# Altium footprint library PcbLib.PcbLib: 38 footprints (part 1 of 3)
Each footprint in its own frame and in the unit in brackets; x right, y up, seen from the top. Pads: shape width x height; smd on the part's side, far side on the other; paste and mask are expansions set on the pad; w line width, h text height; cw(c..) or ccw(c..) is an arc to the next point about the centre after c.
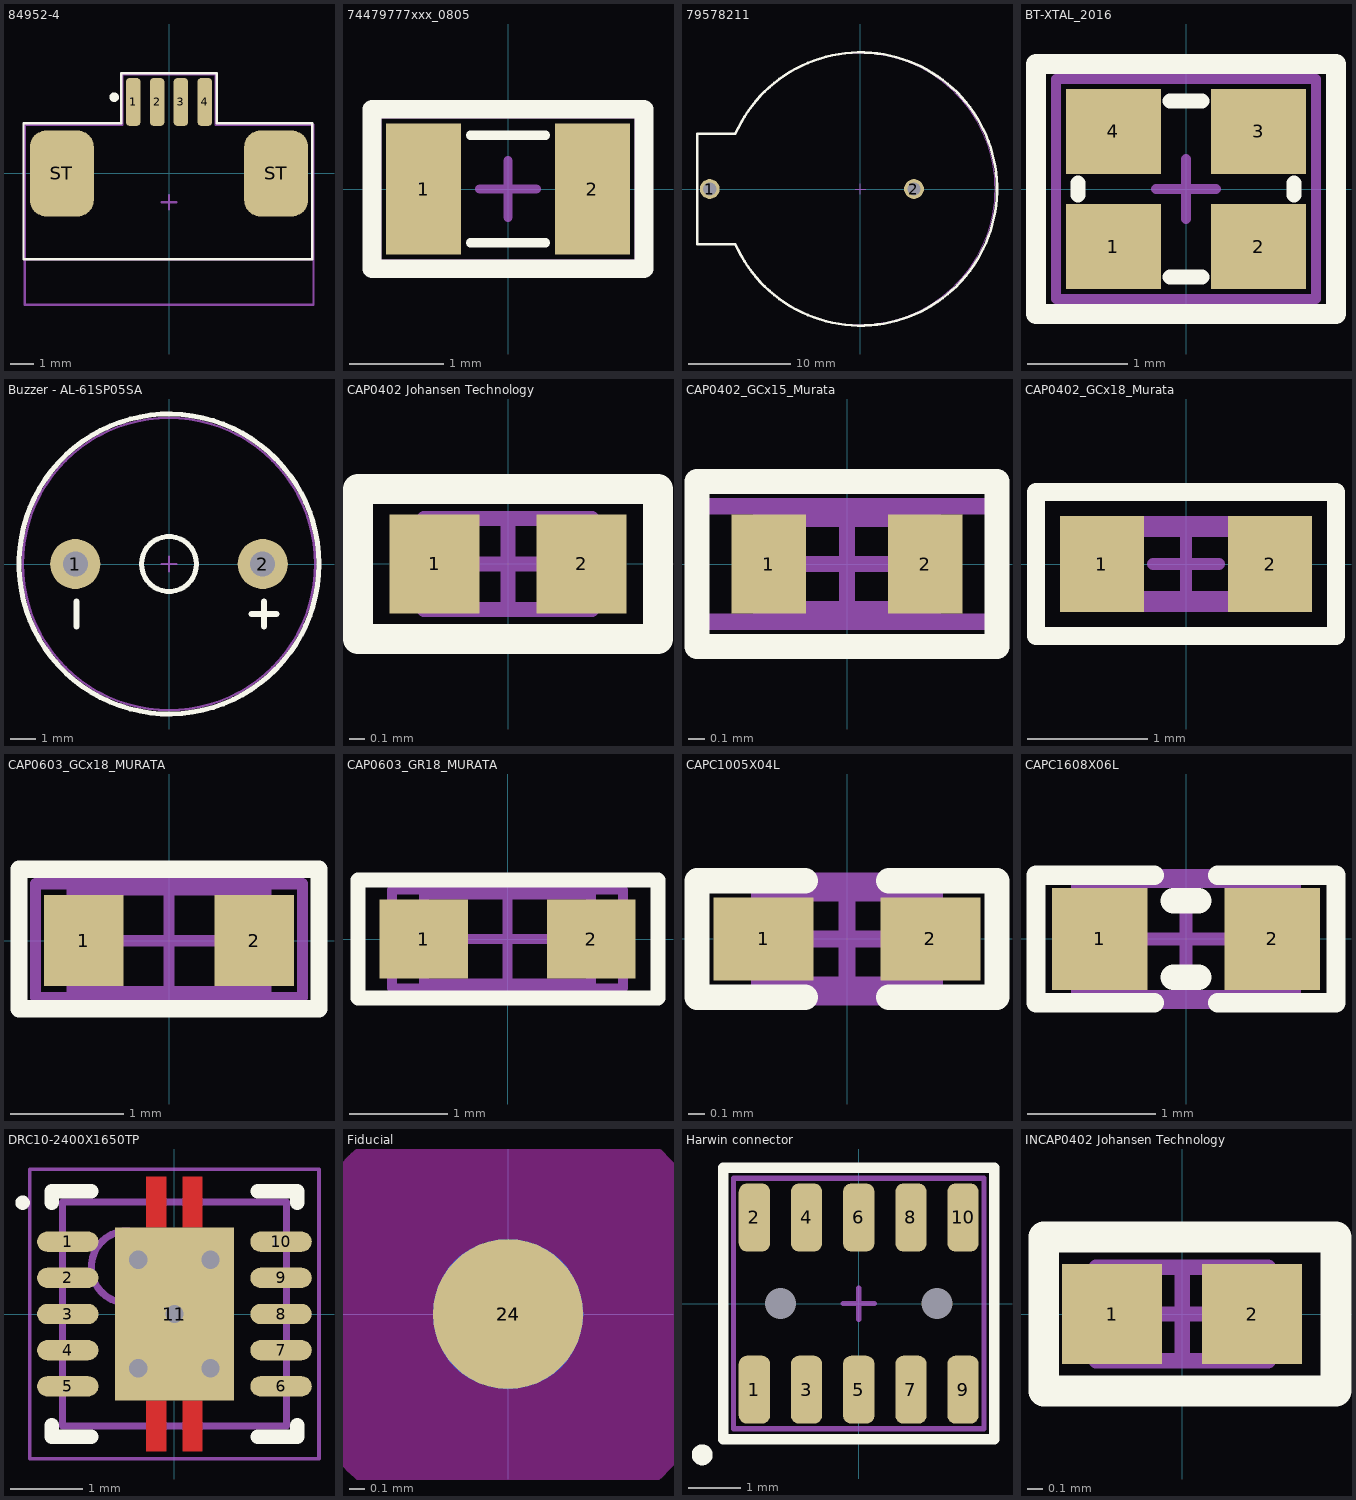
[diagram p0: the footprints below, top view; thin cyan lines are the x and y axes]

## 84952-4 [mm] "84952-4 SMD ZIF connector"
pads (6):
  rrect50% 0.61x2 smd: 1(-1.5,3) 2(-0.5,3) 3(0.5,3) 4(1.5,3)
  rrect50% 2.68x3.6 smd: ST(-4.49,0) ST(4.49,0)
Top Overlay:
  circle w0.2: c-2.3,3.2 r0.1
  lines w0.1: -6.1,-3.6 6,-3.6 6,2.1 2,2.1 2,4.2 -2,4.2 -2,2.1 -6.1,2.1 -6.1,-3.6
Mechanical 15:
  lines w0.1: -6.05,-3.6 6.06,-3.6 ; -0.3,-1.2 0.3,-1.2 ; 0,-1.5 0,-0.9 ; -6.05,-5.5 -6.05,-2.5 -6.05,2.05 -1.95,2.05 -1.95,4.16 1.95,4.16 1.95,2.04 6.06,2.04 6.06,-3.06 6.06,-5.5 -6.05,-5.5
3D body "c-84952-4-a-3d_zif_connector.stp": height 2.54, standoff -0.02, extent -6.04,-3.62 5.88,2.92

## 74479777xxx_0805 [mm] "WE-PMI Power Multilayer Inductor, size 0805"
height 1.25
pads (2):
  rect 0.8x1.4 smd: 1(-0.9,0) 2(0.9,0)
Top Overlay:
  lines w0.1: -0.4,-0.575 0.4,-0.575 ; -0.4,0.575 0.4,0.575
  lines w0.2: -1.45,-0.85 -1.45,0.85 1.45,0.85 1.45,-0.85 -1.45,-0.85
Mechanical 15:
  lines w0.1: -0.3,0 0.3,0 ; 0,-0.3 0,0.3 ; -1.4,-0.8 -1.4,0.8 1.4,0.8 1.4,-0.8 -1.4,-0.8
3D body "74479777xxx_0805.stp": height 1.27, standoff 0.02, extent -1,-0.625 1,0.625

## 79578211 [mm] "Battery Holder"
height 9.5
pads (2):
  round 1.95 hole 1.3: 1(-14.755,0) 2(5.245,0)
Top Overlay:
  lines w0.254: -12.236,-5.4 ccw(c0,0) -12.237,5.399 ; -12.237,5.4 -15.975,5.4 -15.975,-5.4 -12.236,-5.4
Mechanical 15:
  lines w0.1: -0.5,0 0.5,0 ; 0,-0.5 0,0.5 ; -16,-5.4 -16,5.359 -15.98,5.38 -12.254,5.38 cw(c-0.1,0) -12.254,-5.38 -15.98,-5.38 -16,-5.4
3D body "79578211.stp": height 9.6, standoff -3.2, extent -15.97,-13.375 13.327,13.375

## BT-XTAL_2016 [mm]
pads (4):
  rect 0.95x0.85 smd: 1(-0.725,-0.575) 2(0.725,-0.575) 3(0.725,0.575) 4(-0.725,0.575)
Top Overlay:
  lines w0.152: -1.08,-0.06 -1.08,0.06 ; -0.16,-0.88 0.16,-0.88 ; -0.16,0.88 0.16,0.88 ; 1.08,-0.06 1.08,0.06
  lines w0.2: -1.5,-1.25 -1.5,1.25 1.5,1.25 1.5,-1.25 -1.5,-1.25
Mechanical 15:
  lines w0.1: -0.3,0 0.3,0 ; 0,-0.3 0,0.3 ; -1.3,-1.1 1.3,-1.1 1.3,1.1 -1.3,1.1 -1.3,-1.1

## Buzzer - AL-61SP05SA [mm] "KXG1205 buzzer footprint"
pads (2):
  round 2 hole 1: 1(-3.75,0) 2(3.75,0)
Top Overlay:
  circle w0.2: c0,0 r6
  circle w0.2: c0,0 r1.1
  lines w0.254: -3.7,-2.5 -3.7,-1.5 ; 3.3,-2 4.3,-2 ; 3.8,-2.5 3.8,-1.5
Bottom Overlay:
  lines w0.254: -3.7,-2.5 -3.7,-1.5 ; 3.3,-2 4.3,-2 ; 3.8,-2.5 3.8,-1.5
Mechanical 15:
  circle w0.1: c0,0 r5.85
  lines w0.1: -0.3,0 0.3,0 ; 0,-0.3 0,0.3
3D body: height 7.5, standoff 0, extent -5.85,-5.85 5.85,5.85

## CAP0402 Johansen Technology [mm] "Chip Capacitor, 2-Leads, Body 1,02x0,51mm, IPC Medium Density"
height 0.51
pads (2):
  rect 0.6x0.66 smd: 1(-0.49,0) 2(0.49,0)
Top Overlay:
  lines w0.2: -1,-0.5 1,-0.5 1,0.5 -1,0.5 -1,-0.5
Mechanical 13:
  lines w0.1: -0.56,-0.305 0.56,-0.305 0.56,0.305 -0.56,0.305 -0.56,-0.305
Mechanical 15:
  lines w0.05: -0.95,-0.5 0.95,-0.5 0.95,0.5 -0.95,0.5 -0.95,-0.5
  lines w0.1: -0.305,0 0.305,0 ; 0,-0.305 0,0.305
3D body: height 0.51, standoff 0, extent 0.31,-0.305 0.56,0.305
3D body: height 0.51, standoff 0, extent -0.56,-0.305 -0.31,0.305
3D body: height 0.51, standoff 0, extent -0.31,-0.305 0.31,0.305

## CAP0402_GCx15_Murata [mm] "Murata GCx15 0402"
pads (2):
  rect 0.45x0.6 smd: 1(-0.475,0) 2(0.475,0)
Top Overlay:
  lines w0.152: -0.91,-0.5 -0.91,0.5 0.91,0.5 0.91,-0.5 -0.91,-0.5
Mechanical 13:
  lines w0.1: -0.525,-0.275 0.525,-0.275 0.525,0.275 -0.525,0.275 -0.525,-0.275
Mechanical 15:
  lines w0.1: -0.275,0 0.275,0 ; 0,-0.275 0,0.275 ; -0.9,-0.35 -0.9,0.35 0.9,0.35 0.9,-0.35 -0.9,-0.35
3D body "User Library-0402(1005M) Cap.step": height 0.5, standoff -0.01, extent -0.508,-0.254 0.508,0.254

## CAP0402_GCx18_Murata [mm] "Murata GCx18 0402"
pads (2):
  rect 0.7x0.8 smd: 1(-0.7,0) 2(0.7,0)
Top Overlay:
  lines w0.152: -1.25,-0.6 -0.25,-0.6 1.25,-0.6 1.25,0.6 -0.25,0.6 -1.25,0.6 -1.25,-0.6
Mechanical 13:
  lines w0.1: -0.525,-0.275 0.525,-0.275 0.525,0.275 -0.525,0.275 -0.525,-0.275
Mechanical 15:
  lines w0.1: -0.275,0 0.275,0 ; 0,-0.275 0,0.275 ; -0.9,-0.35 -0.9,0.35 0.9,0.35 0.9,-0.35 -0.9,-0.35
3D body "User Library-0402(1005M) Cap.step": height 0.5, standoff -0.01, extent -0.508,-0.254 0.508,0.254

## CAP0603_GCx18_MURATA [mm] "CAP GCx18 Murata 0603"
pads (2):
  rect 0.7x0.8 smd: 1(-0.75,0) 2(0.75,0)
Top Overlay:
  lines w0.152: -1.32,-0.6 1.32,-0.6 1.32,0.63 -1.32,0.63 -1.32,-0.6
Mechanical 13:
  lines w0.1: -0.85,-0.45 -0.85,0.45 0.85,0.45 0.85,-0.45 -0.85,-0.45
Mechanical 15:
  lines w0.1: -0.45,0 0.45,0 ; 0,-0.45 0,0.45 ; -1.175,-0.5 1.175,-0.5 1.175,0.5 -1.175,0.5 -1.175,-0.5
3D body "User Library-Chip Capacitor 0603.step": height 0.8, standoff 0, extent -0.8,-0.43 0.8,0.43

## CAP0603_GR18_MURATA [mm] "CAP GRM18 Murata 0603"
pads (2):
  rect 0.9x0.8 smd: 1(-0.85,0) 2(0.85,0)
Top Overlay:
  lines w0.152: -1.52,-0.6 -1.52,0.6 1.53,0.6 1.53,-0.6 1.4,-0.6 -1.52,-0.6
Mechanical 13:
  lines w0.1: -0.85,-0.45 -0.85,0.45 0.85,0.45 0.85,-0.45 -0.85,-0.45
Mechanical 15:
  lines w0.1: -0.45,0 0.45,0 ; 0,-0.45 0,0.45 ; -1.175,-0.5 1.175,-0.5 1.175,0.5 -1.175,0.5 -1.175,-0.5
3D body "User Library-Chip Capacitor 0603.step": height 0.8, standoff 0, extent -0.8,-0.43 0.8,0.43

## CAPC1005X04L [mm]
pads (2):
  rect 0.6x0.5 smd: 1(-0.5,0) 2(0.5,0)
Top Overlay:
  lines w0.152: -0.25,-0.35 -0.9,-0.35 -0.9,0.35 -0.25,0.35 ; 0.25,-0.35 0.9,-0.35 0.9,0.35 0.25,0.35
Mechanical 13:
  lines w0.1: -0.525,-0.275 0.525,-0.275 0.525,0.275 -0.525,0.275 -0.525,-0.275
Mechanical 15:
  lines w0.1: -0.275,0 0.275,0 ; 0,-0.275 0,0.275 ; -0.9,-0.35 -0.9,0.35 0.9,0.35 0.9,-0.35 -0.9,-0.35
3D body "User Library-0402(1005M) Cap.step": height 0.5, standoff -0.01, extent -0.508,-0.254 0.508,0.254

## CAPC1608X06L [mm]
pads (2):
  rect 0.75x0.8 smd: 1(-0.675,0) 2(0.675,0)
Top Overlay:
  lines w0.152: -0.25,-0.5 -1.175,-0.5 -1.175,0.5 -0.25,0.5 ; 0.25,-0.5 1.175,-0.5 1.175,0.5 0.25,0.5
  lines w0.2: -0.1,-0.3 0.1,-0.3 ; -0.1,0.3 0.1,0.3
Mechanical 13:
  lines w0.1: -0.85,-0.45 -0.85,0.45 0.85,0.45 0.85,-0.45 -0.85,-0.45
Mechanical 15:
  lines w0.1: -0.45,0 0.45,0 ; 0,-0.45 0,0.45 ; -1.175,-0.5 1.175,-0.5 1.175,0.5 -1.175,0.5 -1.175,-0.5
3D body "User Library-Chip Capacitor 0603.step": height 0.8, standoff 0, extent -0.8,-0.43 0.8,0.43

## DRC10-2400X1650TP [mm] "SON, 10-Leads, Body 3x3mm, Pitch 0.5mm, Thermal Pad 2.4x1.65mm, TI Recommended"
height 1
pads (11):
  oval 0.85x0.28 smd paste-0.025 mask+0.07: 1(-1.475,1) 2(-1.475,0.5) 3(-1.475,0) 4(-1.475,-0.5) 5(-1.475,-1) 6(1.475,-1) 7(1.475,-0.5) 8(1.475,0) 9(1.475,0.5) 10(1.475,1)
  rect 1.65x2.4 smd paste-0.825 mask+0.07: 11(0,0)
via 0,0 diameter 0.6 hole 0.25
via 0.5,0.75 diameter 0.6 hole 0.25
via -0.5,0.75 diameter 0.6 hole 0.25
via -0.5,-0.75 diameter 0.6 hole 0.25
via 0.5,-0.75 diameter 0.6 hole 0.25
Top Layer:
  rectangle: -0.39,1.2 -0.11,1.9
  region: 0.39,1.9 0.11,1.9 0.11,1.2 0.39,1.2
  region: 0.39,-1.2 0.11,-1.2 0.11,-1.9 0.39,-1.9
  rectangle: -0.39,-1.9 -0.11,-1.2
Top Overlay:
  circle w0.1: c-2.1,1.54 r0.05
  lines w0.2: -1.7,-1.54 -1.7,-1.7 -1.15,-1.7 ; -1.7,1.54 -1.7,1.7 -1.15,1.7 ; 1.15,-1.7 1.7,-1.7 1.7,-1.54 ; 1.15,1.7 1.7,1.7 1.7,1.54
Top Paste:
  rectangle: -0.79,0.11 -0.11,1.16
  rectangle: -0.38,1.38 -0.12,1.88
  region: 0.38,1.88 0.12,1.88 0.12,1.38 0.38,1.38
  region: 0.38,-1.38 0.12,-1.38 0.12,-1.88 0.38,-1.88
  rectangle: -0.38,-1.88 -0.12,-1.38
  region: 0.79,1.16 0.11,1.16 0.11,0.11 0.79,0.11
  region: 0.79,-0.11 0.11,-0.11 0.11,-1.16 0.79,-1.16
  rectangle: -0.79,-1.16 -0.11,-0.11
Mechanical 13:
  circle w0.1: c-0.65,0.65 r0.5
  lines w0.1: -1.55,-1.55 -1.55,1.55 1.55,1.55 1.55,-1.55 -1.55,-1.55
Mechanical 15:
  lines w0.05: -2,-2 -2,2 2,2 2,-2 -2,-2
  lines w0.1: -0.3,0 0.3,0 ; 0,-0.3 0,0.3
3D body: height 1, standoff 0, extent -1.55,-1.55 1.55,1.55

## Fiducial [mm] "Fiducial Eurocircuits"
pads (2):
  round 1 smd paste+0 mask+1: 24(0,0)
  round 1 smd far side paste+0 mask+1: 24(0,0)
Keep-Out Layer:
  circle w1: c0,0 r1
Mechanical 15:
  lines w0.1: -0.3,0 0.3,0 ; 0,-0.3 0,0.3

## Harwin connector [mm] "Harwin 2 Rows x 6 Contacts 1mm pitch"
pads (12):
  rrect50% 0.6x1.3 smd: 1(-2,-1.65) 2(-2,1.65) 3(-1,-1.65) 4(-1,1.65) 5(0,-1.65) 6(0,1.65) 7(1,-1.65) 8(1,1.65) 9(2,-1.65) 10(2,1.65)
  round 0 hole 0.6 unplated: MH(-1.5,0) MH(1.5,0)
Top Overlay:
  circle w0.2: c-3,-2.9 r0.1
  lines w0.2: -2.6,-2.6 -2.6,2.6 2.6,2.6 2.6,-2.6 -2.6,-2.6
Mechanical 15:
  lines w0.1: -0.3,0 0.3,0 ; 0,-0.3 0,0.3 ; -2.4,-2.4 2.4,-2.4 2.4,2.4 -2.4,2.4 -2.4,-2.4

## INCAP0402 Johansen Technology [mm] "Capacitor 0402 IPC Medium density"
height 0.51
pads (2):
  rect 0.65x0.65 smd: 1(-0.455,0) 2(0.455,0)
Top Overlay:
  lines w0.2: -0.9,-0.5 1,-0.5 1,0.5 -0.9,0.5 -0.9,-0.5
Mechanical 13:
  lines w0.1: -0.56,-0.305 0.56,-0.305 0.56,0.305 -0.56,0.305 -0.56,-0.305
Mechanical 15:
  lines w0.05: -0.95,-0.5 0.95,-0.5 0.95,0.5 -0.95,0.5 -0.95,-0.5
  lines w0.1: -0.305,0 0.305,0 ; 0,-0.305 0,0.305
3D body: height 0.51, standoff 0, extent 0.31,-0.305 0.56,0.305
3D body: height 0.51, standoff 0, extent -0.56,-0.305 -0.31,0.305
3D body: height 0.51, standoff 0, extent -0.31,-0.305 0.31,0.305